# EAGLE library part 7-SEG-3DIG-12PIN (library MTS-OTR_Custom)
7Segment 3 Digit 0.8" LED display
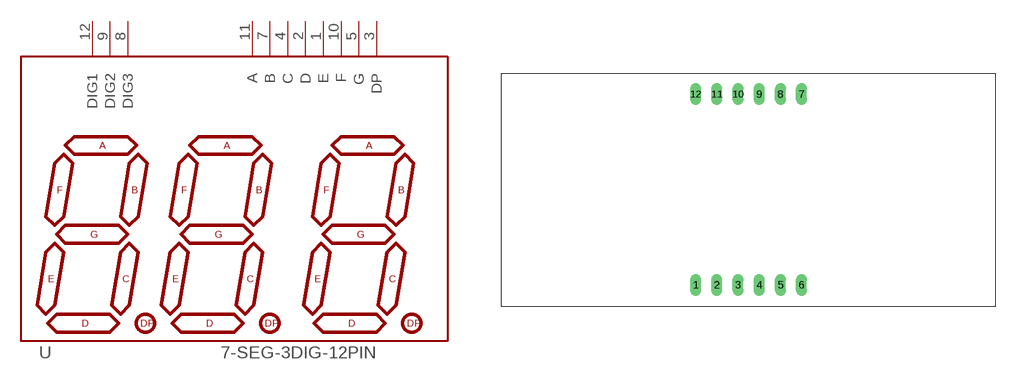
[diagram p31: symbol with the pads of 7-SEG-3DIG-12PIN; footprint 7-SEG-3DIG-12PIN]

Designator prefix -

## 7-SEG-3DIG-12PIN  [7-SEG-3DIG-12PIN]
1  E
2  D
3  DP
4  C
5  G
7  B
8  DIG3
9  DIG2
10  F
11  A
12  DIG1

## Footprint 7-SEG-3DIG-12PIN (pad centres in mm)
drill 0.813 long: 1 -6.35,-11.43; 2 -3.81,-11.43; 3 -1.27,-11.43; 4 1.27,-11.43; 5 3.81,-11.43; 6 6.35,-11.43; 7 6.35,11.43; 8 3.81,11.43; 9 1.27,11.43; 10 -1.27,11.43; 11 -3.81,11.43; 12 -6.35,11.43